# Altium schematic symbol library TLV2782.Schlib: 1 symbol
Pins are listed as number, name and electrical type; pins without a type are passive.

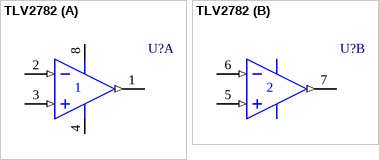
[diagram p0: symbol TLV2782]

## TLV2782
designator U?  (value not drawn)
Quad Low-Power 8 MHz Rail-to-Rail I/O Operational Amplifier
part A pins: 1 OUT (out), 2 IN- (in), 3 IN+ (in), 4, 8
part B pins: 5 IN+ (in), 6 IN- (in), 7 OUT (out)